# EAGLE library part AT24C64B-10PU-2.7 (library AT24C64B-10PU-2.7)
Atmel AT24C64B-10PU-2.7 EEPROM Memory, 64kbit, 0.6us, 1.8 5.5 V 8-Pin PDIP Source: Datasheet
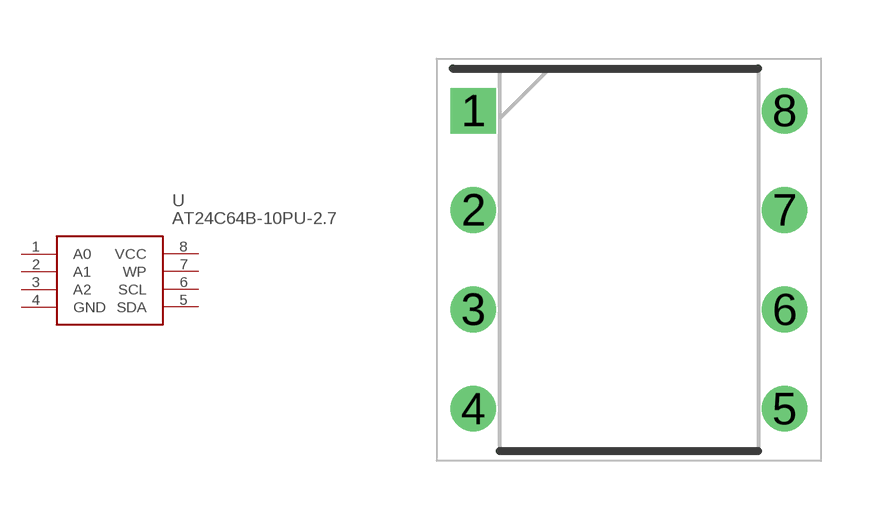
[diagram p0: symbol with the pads of DIP795W46P254L952H572Q8N; footprint DIP795W46P254L952H572Q8N]

Designator prefix U

## AT24C64B-10PU-2.7 (Description: Atmel AT24C64B-10PU-2.7 EEPROM Memory, 64kbit, 0.6us, 1.8 5.5 V 8-Pin PDIP; Height: 5.715mm; Manufacturer_Name: Microchip; Manufacturer_Part_Number: AT24C64B-10PU-2.7)  [DIP795W46P254L952H572Q8N]
1  A0  in
2  A1  in
3  A2  in
4  GND  pwr
5  SDA
6  SCL  in
7  WP  in
8  VCC  pwr

## Footprint DIP795W46P254L952H572Q8N (pad centres in mm)
8 DIP (N)
drill 0.657 pad 1.057 square: 1 -3.975,3.81
drill 0.657 pad 1.057: 2 -3.975,1.27; 3 -3.975,-1.27; 4 -3.975,-3.81; 5 3.975,-3.81; 6 3.975,-1.27; 7 3.975,1.27; 8 3.975,3.81